# EAGLE library part MICRO-SD-ALIEXP (library PonLib)
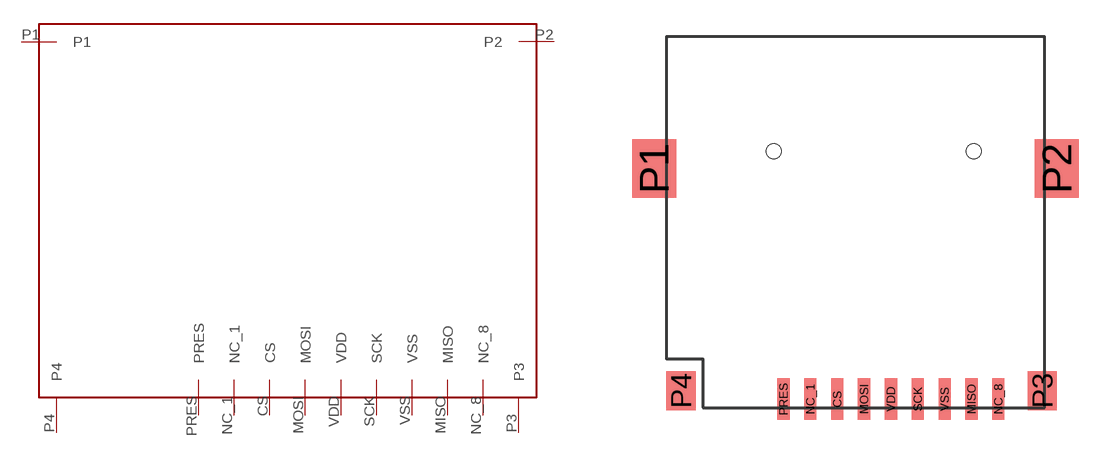
[diagram p29: symbol with the pads of MICRO-SD-ALIEXP; footprint MICRO-SD-ALIEXP]

Designator prefix -

## MICRO-SD-ALIEXP  [MICRO-SD-ALIEXP]
CS  CS
MISO  MISO
MOSI  MOSI
NC_1  NC_1
NC_8  NC_8
P1  P1
P2  P2
P3  P3
P4  P4
PRES  PRES
SCK  SCK
VDD  VDD
VSS  VSS

## Footprint MICRO-SD-ALIEXP (pad centres in mm)
smd 0.5 x 1.7: CS -3.7,-0.85; MISO 1.8,-0.85; MOSI -2.6,-0.85; NC_1 -4.8,-0.85; NC_8 2.9,-0.85; PRES -5.9,-0.85; SCK -0.4,-0.85; VDD -1.5,-0.85; VSS 0.7,-0.85
smd 1.8 x 2.4: P1 -11.2,8.6; P2 5.3,8.6
smd 1.2 x 1.6: P3 4.7,-0.5; P4 -10.1,-0.5
hole 0.6 at -6.3,9.3
hole 0.6 at 1.9,9.3